# EAGLE library part MOLEX-KK-6-M (library components)
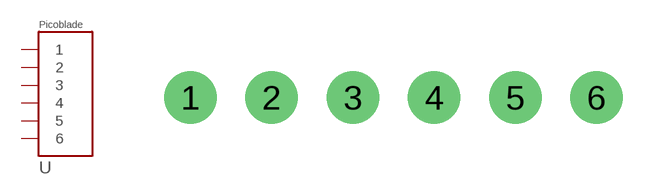
[diagram p18: symbol with the pads of KK41792-MALE-6; footprint KK41792-MALE-6]

Designator prefix -

## MOLEX-KK-6-M  [KK41792-MALE-6]
1  1
2  2
3  3
4  4
5  5
6  6

## Footprint KK41792-MALE-6 (pad centres in mm)
drill 1.702: 1 0,0; 2 3.962,0; 3 7.925,0; 4 11.887,0; 5 15.85,0; 6 19.812,0